# Altium footprint library PCB - CONNECTOR - JST - JST BM08B-SURS-TF.PCBLIB: 1 footprints
Each footprint in its own frame and in the unit in brackets; x right, y up, seen from the top. Pads: shape width x height; smd on the part's side, far side on the other; paste and mask are expansions set on the pad; w line width, h text height; cw(c..) or ccw(c..) is an arc to the next point about the centre after c.
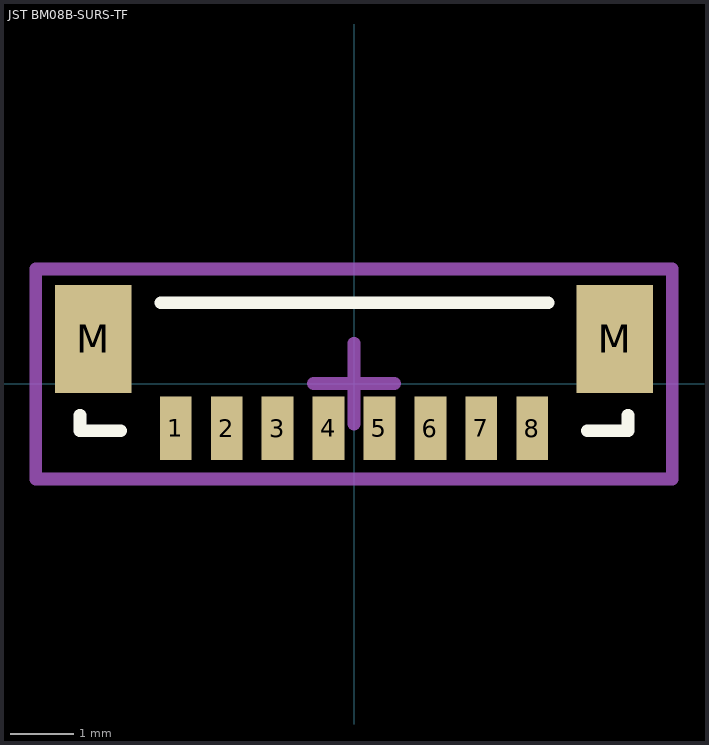
[diagram p0: the footprint, top view; thin cyan lines are the x and y axes]

## JST BM08B-SURS-TF [mm] "1.0mm pitch/Disconnectable Crimp style connector"
height 3.95
pads (10):
  rect 0.5x1 smd: 1(-2.8,-0.7) 2(-2,-0.7) 3(-1.2,-0.7) 4(-0.4,-0.7) 5(0.4,-0.7) 6(1.2,-0.7) 7(2,-0.7) 8(2.8,-0.7)
  rect 1.2x1.7 smd: M(-4.1,0.7) M(4.1,0.7)
Top Overlay:
  lines w0.2: -4.305,-0.5 -4.305,-0.741 -3.67,-0.741 ; -3.035,1.27 3.048,1.27 ; 3.67,-0.741 4.305,-0.741 4.305,-0.5
Mechanical 15:
  lines w0.2: -0.635,0 0.635,0 ; 0,-0.635 0,0.635 ; -5,-1.5 -5,1.8 5,1.8 5,-1.5 -5,-1.5
3D body "JST BM08B-SURS-TF.STEP": height 2.75, standoff 0, extent -4.3,-1.016 4.3,1.234